# EAGLE library part MAX3674 (library DAC)
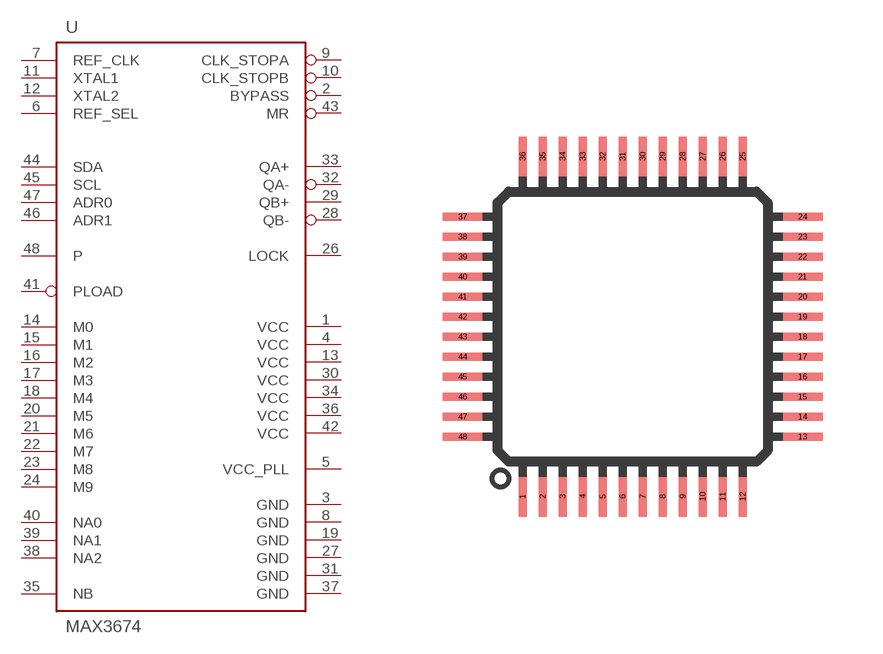
[diagram p31: symbol with the pads of LQFP-48; footprint LQFP-48]

Designator prefix U

## MAX3674ECM  [LQFP-48]
1  VCC  pwr
2  BYPASS  in
3  GND  sup
4  VCC  pwr
5  VCC_PLL  pwr
6  REF_SEL  in
7  REF_CLK  in
8  GND  sup
9  CLK_STOPA  in
10  CLK_STOPB  in
11  XTAL1  in
12  XTAL2  in
13  VCC  pwr
14  M0  in
15  M1  in
16  M2  in
17  M3  in
18  M4  in
19  GND  sup
20  M5  in
21  M6  in
22  M7  in
23  M8  in
24  M9  in
26  LOCK  out
27  GND  sup
28  QB-  out
29  QB+  out
30  VCC  pwr
31  GND  sup
32  QA-  out
33  QA+  out
34  VCC  pwr
35  NB  in
36  VCC  pwr
37  GND  sup
38  NA2  in
39  NA1  in
40  NA0  in
41  PLOAD  in
42  VCC  pwr
43  MR  in
44  SDA
45  SCL
46  ADR1  in
47  ADR0  in
48  P  in

## Footprint LQFP-48 (pad centres in mm)
smd 0.2 x 1: 1 -2.75,-4.25; 2 -2.25,-4.25; 3 -1.75,-4.25; 4 -1.25,-4.25; 5 -0.75,-4.25; 6 -0.25,-4.25; 7 0.25,-4.25; 8 0.75,-4.25; 9 1.25,-4.25; 10 1.75,-4.25; 11 2.25,-4.25; 12 2.75,-4.25; 25 2.75,4.25; 26 2.25,4.25; 27 1.75,4.25; 28 1.25,4.25; 29 0.75,4.25; 30 0.25,4.25; 31 -0.25,4.25; 32 -0.75,4.25; 33 -1.25,4.25; 34 -1.75,4.25; 35 -2.25,4.25; 36 -2.75,4.25
smd 1 x 0.2: 13 4.25,-2.75; 14 4.25,-2.25; 15 4.25,-1.75; 16 4.25,-1.25; 17 4.25,-0.75; 18 4.25,-0.25; 19 4.25,0.25; 20 4.25,0.75; 21 4.25,1.25; 22 4.25,1.75; 23 4.25,2.25; 24 4.25,2.75; 37 -4.25,2.75; 38 -4.25,2.25; 39 -4.25,1.75; 40 -4.25,1.25; 41 -4.25,0.75; 42 -4.25,0.25; 43 -4.25,-0.25; 44 -4.25,-0.75; 45 -4.25,-1.25; 46 -4.25,-1.75; 47 -4.25,-2.25; 48 -4.25,-2.75